# EAGLE library part STM32F103C8T6 (library common)
Mainstream Performance line, ARM Cortex-M3 MCU with 64 Kbytes Flash, 72 MHz CPU, motor control, USB and CAN
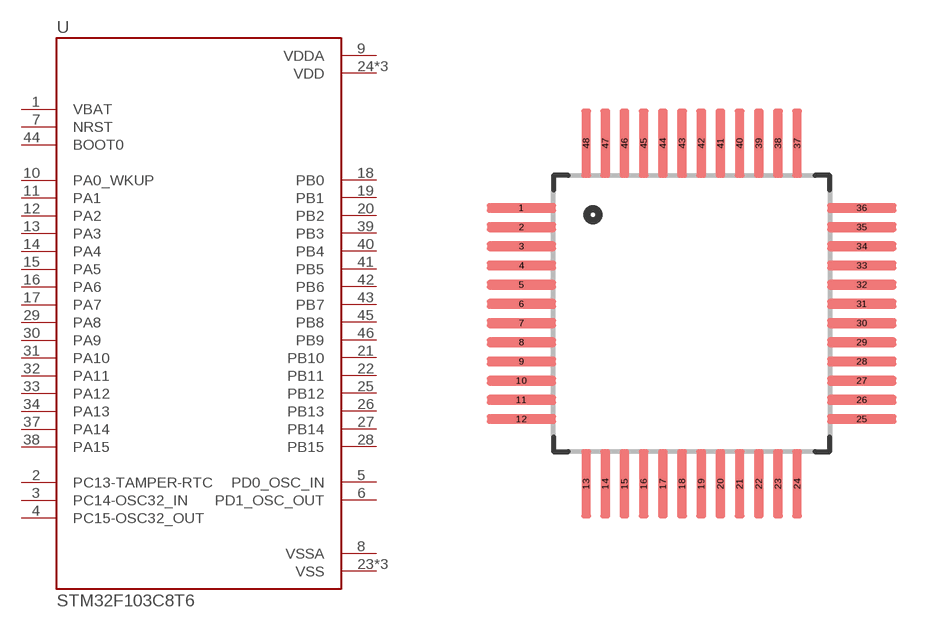
[diagram p11: symbol with the pads of QFP50P900X900X160-48N; footprint QFP50P900X900X160-48N]

Designator prefix U

## STM32F103C8T6 (AVAILABILITY: Unavailable; DESCRIPTION: ARM® Cortex®-M3 STM32F1 Microcontroller IC 32-Bit 72MHz 64KB _64K x 8_ FLASH; MF: STMicroelectronics; MP: STM32F103C8T6; PACKAGE: LQFP-48 STMicroelectronics; PRICE: None)  [QFP50P900X900X160-48N]
1  VBAT
2  PC13-TAMPER-RTC
3  PC14-OSC32_IN
4  PC15-OSC32_OUT
5  PD0_OSC_IN
6  PD1_OSC_OUT
7  NRST  in
8  VSSA  pwr
9  VDDA  pwr
10  PA0_WKUP
11  PA1
12  PA2
13  PA3
14  PA4
15  PA5
16  PA6
17  PA7
18  PB0
19  PB1
20  PB2
21  PB10
22  PB11
23  VSS  pwr
24  VDD  pwr
25  PB12
26  PB13
27  PB14
28  PB15
29  PA8
30  PA9
31  PA10
32  PA11
33  PA12
34  PA13
35  VSS  pwr
36  VDD  pwr
37  PA14
38  PA15
39  PB3
40  PB4
41  PB5
42  PB6
43  PB7
44  BOOT0  in
45  PB8
46  PB9
47  VSS  pwr
48  VDD  pwr

## Footprint QFP50P900X900X160-48N (pad centres in mm)
smd 1.8 x 0.25: 1 -4.434,2.75; 2 -4.434,2.25; 3 -4.434,1.75; 4 -4.434,1.25; 5 -4.434,0.75; 6 -4.434,0.25; 7 -4.434,-0.25; 8 -4.434,-0.75; 9 -4.434,-1.25; 10 -4.434,-1.75; 11 -4.434,-2.25; 12 -4.434,-2.75; 25 4.434,-2.75; 26 4.434,-2.25; 27 4.434,-1.75; 28 4.434,-1.25; 29 4.434,-0.75; 30 4.434,-0.25; 31 4.434,0.25; 32 4.434,0.75; 33 4.434,1.25; 34 4.434,1.75; 35 4.434,2.25; 36 4.434,2.75
smd 0.25 x 1.8: 13 -2.75,-4.434; 14 -2.25,-4.434; 15 -1.75,-4.434; 16 -1.25,-4.434; 17 -0.75,-4.434; 18 -0.25,-4.434; 19 0.25,-4.434; 20 0.75,-4.434; 21 1.25,-4.434; 22 1.75,-4.434; 23 2.25,-4.434; 24 2.75,-4.434; 37 2.75,4.434; 38 2.25,4.434; 39 1.75,4.434; 40 1.25,4.434; 41 0.75,4.434; 42 0.25,4.434; 43 -0.25,4.434; 44 -0.75,4.434; 45 -1.25,4.434; 46 -1.75,4.434; 47 -2.25,4.434; 48 -2.75,4.434